# Altium integrated library module.IntLib: 8 symbols
Pins are listed as number, name and electrical type; pins without a type are passive.

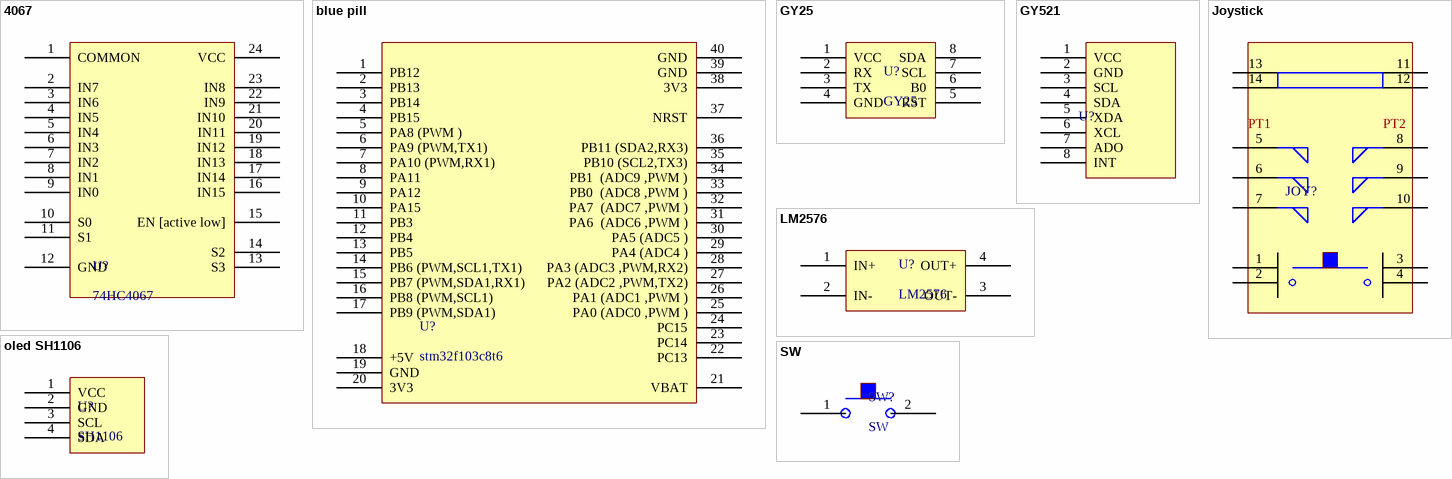
[diagram p0: symbols 4067 to SW]

## 4067
designator U?, comment 74HC4067
footprint 4067
pins: 1 COMMON, 2 IN7, 3 IN6, 4 IN5, 5 IN4, 6 IN3, 7 IN2, 8 IN1, 9 IN0, 10 S0, 11 S1, 12 GND, 13 S3, 14 S2, 15 EN [active low], 16 IN15, 17 IN14, 18 IN13, 19 IN12, 20 IN11, 21 IN10, 22 IN9, 23 IN8, 24 VCC

## blue pill
designator U?, comment stm32f103c8t6
footprint BLUE PILL
pins: 1 PB12, 2 PB13, 3 PB14, 4 PB15, 5 PA8 (PWM ), 6 PA9 (PWM,TX1), 7 PA10 (PWM,RX1), 8 PA11, 9 PA12, 10 PA15, 11 PB3, 12 PB4 , 13 PB5, 14 PB6 (PWM,SCL1,TX1), 15 PB7 (PWM,SDA1,RX1), 16 PB8 (PWM,SCL1), 17 PB9 (PWM,SDA1), 18 +5V, 19 GND, 20 3V3, 21 VBAT, 22 PC13, 23 PC14, 24 PC15, 25 PA0 (ADC0 ,PWM ), 26 PA1 (ADC1 ,PWM ), 27 PA2 (ADC2 ,PWM,TX2), 28 PA3 (ADC3 ,PWM,RX2), 29 PA4 (ADC4 ), 30 PA5 (ADC5 ), 31 PA6  (ADC6 ,PWM ), 32 PA7  (ADC7 ,PWM ), 33 PB0  (ADC8 ,PWM ), 34 PB1  (ADC9 ,PWM ), 35 PB10 (SCL2,TX3), 36 PB11 (SDA2,RX3), 37 NRST, 38 3V3, 39 GND, 40 GND

## GY25
designator U?
footprint GY25
pins: 1 VCC, 2 RX, 3 TX, 4 GND, 5 RST, 6 B0, 7 SCL, 8 SDA

## GY521
designator U?
footprint gy521
pins: 1 VCC, 2 GND, 3 SCL, 4 SDA, 5 XDA, 6 XCL, 7 ADO, 8 INT

## Joystick
designator JOY?
footprint JOYSTICK [PS2]
pins: 1, 2, 3, 4, 5, 6, 7, 8, 9, 10, 11, 12, 13, 14
text: PT1; PT2

## LM2576
designator U?
footprint LM2576
pins: 1 IN+ (power), 2 IN- (power), 3 OUT- (power), 4 OUT+ (power)

## oled SH1106
designator U?, comment SH1106
footprint SH1106  [ VCC LEFT ]
footprint SH1106 [ GND LEFT]
pins: 1 VCC, 2 GND, 3 SCL, 4 SDA

## SW
designator SW?
footprint switch [small]
footprint switch [middle]
footprint SWITCH [SMALL2]
footprint SWITCH [HUGE 1]
footprint SWITCH [HUGE 2]
pins: 1, 2